# Altium schematic symbol library CommonDevs_Shevchuk.SchLib: 4 symbols
Pins are listed as number, name and electrical type; pins without a type are passive.

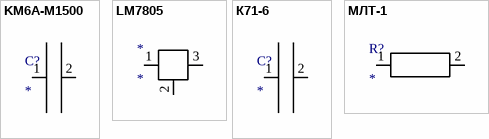
[diagram p0: symbols KM6A-M1500 to МЛТ-1]

## KM6A-M1500
designator C?
pins: 1, 2

## LM7805
designator *
pins: 1, 2, 3

## К71-6
designator С?
pins: 1, 2

## МЛТ-1
designator R?
pins: 1, 2